# Altium schematic symbol library WE-FB.SchLib: 67 symbols
Pins are listed as number, name and electrical type; pins without a type are passive.

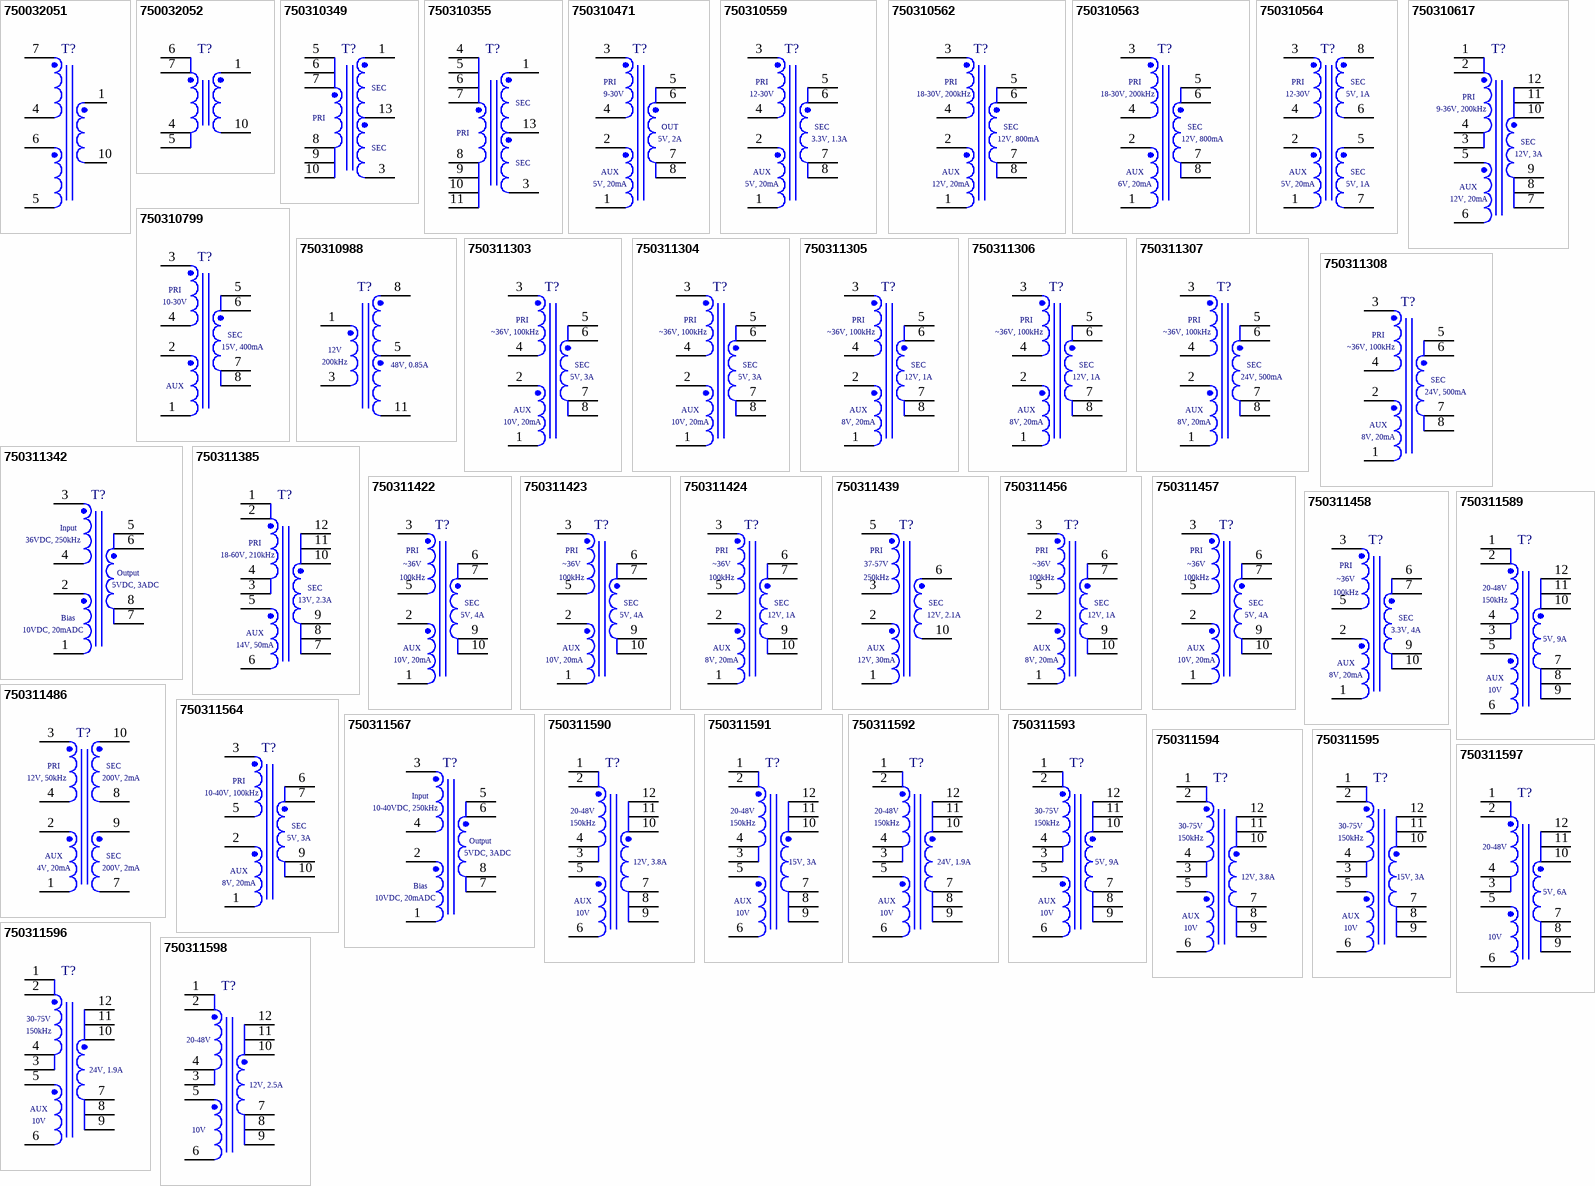
[diagram p0: symbols 750032051 to 750311598]

## 750032051
designator T?
pins: 1, 4, 5, 6, 7, 10

## 750032052
designator T?
pins: 1, 4, 5, 6, 7, 10

## 750310349
designator T?
pins: 1, 3, 5, 6, 7, 8, 9, 10, 13
text: SEC; PRI

## 750310355
designator T?
pins: 1, 3, 4, 5, 6, 7, 8, 9, 10, 11, 13
text: SEC; PRI

## 750310471
designator T?
pins: 1, 2, 3, 4, 5, 6, 7, 8
text: 9-30V; PRI; OUT; 5V, 2A; AUX; 5V, 20mA

## 750310559
designator T?
pins: 1, 2, 3, 4, 5, 6, 7, 8
text: PRI; 12-30V; SEC; 3.3V, 1.3A; AUX; 5V, 20mA

## 750310562
designator T?
pins: 1, 2, 3, 4, 5, 6, 7, 8
text: 18-30V, 200kHz; PRI; SEC; 12V, 800mA; AUX; 12V, 20mA

## 750310563
designator T?
pins: 1, 2, 3, 4, 5, 6, 7, 8
text: 18-30V, 200kHz; PRI; SEC; 12V, 800mA; AUX; 6V, 20mA

## 750310564
designator T?
pins: 1, 2, 3, 4, 5, 6, 7, 8
text: PRI; 12-30V; SEC; 5V, 1A; AUX; 5V, 20mA

## 750310617
designator T?
pins: 1, 2, 3, 4, 5, 6, 7, 8, 9, 10, 11, 12
text: 9-36V, 200kHz; PRI; 12V, 3A; SEC; 12V, 20mA; AUX

## 750310799
designator T?
pins: 1, 2, 3, 4, 5, 6, 7, 8
text: PRI; 10-30V; SEC; 15V, 400mA; AUX

## 750310988
designator T?
pins: 1, 3, 5, 8, 11
text: 12V; 200kHz; 48V, 0.85A

## 750311303
designator T?
pins: 1, 2, 3, 4, 5, 6, 7, 8
text: ~36V, 100kHz; PRI; SEC; 5V, 3A; AUX; 10V, 20mA

## 750311304
designator T?
pins: 1, 2, 3, 4, 5, 6, 7, 8
text: ~36V, 100kHz; PRI; SEC; 5V, 3A; AUX; 10V, 20mA

## 750311305
designator T?
pins: 1, 2, 3, 4, 5, 6, 7, 8
text: ~36V, 100kHz; PRI; SEC; 12V, 1A; AUX; 8V, 20mA

## 750311306
designator T?
pins: 1, 2, 3, 4, 5, 6, 7, 8
text: ~36V, 100kHz; PRI; SEC; 12V, 1A; AUX; 8V, 20mA

## 750311307
designator T?
pins: 1, 2, 3, 4, 5, 6, 7, 8
text: ~36V, 100kHz; PRI; SEC; 24V, 500mA; AUX; 8V, 20mA

## 750311308
designator T?
pins: 1, 2, 3, 4, 5, 6, 7, 8
text: ~36V, 100kHz; PRI; SEC; 24V, 500mA; AUX; 8V, 20mA

## 750311342
designator T?
pins: 1, 2, 3, 4, 5, 6, 7, 8
text: 36VDC, 250kHz; Input; Output; 5VDC, 3ADC; 10VDC, 20mADC; Bias

## 750311385
designator T?
pins: 1, 2, 3, 4, 5, 6, 7, 8, 9, 10, 11, 12
text: 18-60V, 210kHz; PRI; 13V, 2.3A; SEC; 14V, 50mA; AUX

## 750311422
designator T?
pins: 1, 2, 3, 5, 6, 7, 9, 10
text: PRI; ~36V; 100kHz; SEC; 5V, 4A; AUX; 10V, 20mA

## 750311423
designator T?
pins: 1, 2, 3, 5, 6, 7, 9, 10
text: PRI; ~36V; 100kHz; SEC; 5V, 4A; 10V, 20mA; AUX

## 750311424
designator T?
pins: 1, 2, 3, 5, 6, 7, 9, 10
text: PRI; ~36V; 100kHz; SEC; 12V, 1A; AUX; 8V, 20mA

## 750311439
designator T?
pins: 1, 2, 3, 5, 6, 10
text: PRI; 37-57V; 250kHz; SEC; 12V, 2.1A; AUX; 12V, 30mA

## 750311456
designator T?
pins: 1, 2, 3, 5, 6, 7, 9, 10
text: PRI; ~36V; 100kHz; 12V, 1A; SEC; AUX; 8V, 20mA

## 750311457
designator T?
pins: 1, 2, 3, 5, 6, 7, 9, 10
text: PRI; ~36V; 100kHz; SEC; 5V, 4A; AUX; 10V, 20mA

## 750311458
designator T?
pins: 1, 2, 3, 5, 6, 7, 9, 10
text: PRI; ~36V; 100kHz; SEC; 3.3V, 4A; AUX; 8V, 20mA

## 750311486
designator T?
pins: 1, 2, 3, 4, 7, 8, 9, 10
text: 12V, 50kHz; PRI; SEC; 200V, 2mA; AUX; 4V, 20mA

## 750311564
designator T?
pins: 1, 2, 3, 5, 6, 7, 9, 10
text: 10-40V, 100kHz; PRI; SEC; 5V, 3A; AUX; 8V, 20mA

## 750311567
designator T?
pins: 1, 2, 3, 4, 5, 6, 7, 8
text: 10-40VDC, 250kHz; Input; Output; 5VDC, 3ADC; 10VDC, 20mADC; Bias

## 750311589
designator T?
pins: 1, 2, 3, 4, 5, 6, 7, 8, 9, 10, 11, 12
text: 20-48V; 150kHz; 5V, 9A; 10V; AUX

## 750311590
designator T?
pins: 1, 2, 3, 4, 5, 6, 7, 8, 9, 10, 11, 12
text: 20-48V; 150kHz; 12V, 3.8A; 10V; AUX

## 750311591
designator T?
pins: 1, 2, 3, 4, 5, 6, 7, 8, 9, 10, 11, 12
text: 20-48V; 150kHz; 15V, 3A; 10V; AUX

## 750311592
designator T?
pins: 1, 2, 3, 4, 5, 6, 7, 8, 9, 10, 11, 12
text: 20-48V; 150kHz; 24V, 1.9A; 10V; AUX

## 750311593
designator T?
pins: 1, 2, 3, 4, 5, 6, 7, 8, 9, 10, 11, 12
text: 30-75V; 150kHz; 5V, 9A; 10V; AUX

## 750311594
designator T?
pins: 1, 2, 3, 4, 5, 6, 7, 8, 9, 10, 11, 12
text: 30-75V; 150kHz; 12V, 3.8A; 10V; AUX

## 750311595
designator T?
pins: 1, 2, 3, 4, 5, 6, 7, 8, 9, 10, 11, 12
text: 30-75V; 150kHz; 15V, 3A; 10V; AUX

## 750311596
designator T?
pins: 1, 2, 3, 4, 5, 6, 7, 8, 9, 10, 11, 12
text: 30-75V; 150kHz; 24V, 1.9A; 10V; AUX

## 750311597
designator T?
pins: 1, 2, 3, 4, 5, 6, 7, 8, 9, 10, 11, 12
text: 20-48V; 5V, 6A; 10V

## 750311598
designator T?
pins: 1, 2, 3, 4, 5, 6, 7, 8, 9, 10, 11, 12
text: 20-48V; 12V, 2.5A; 10V

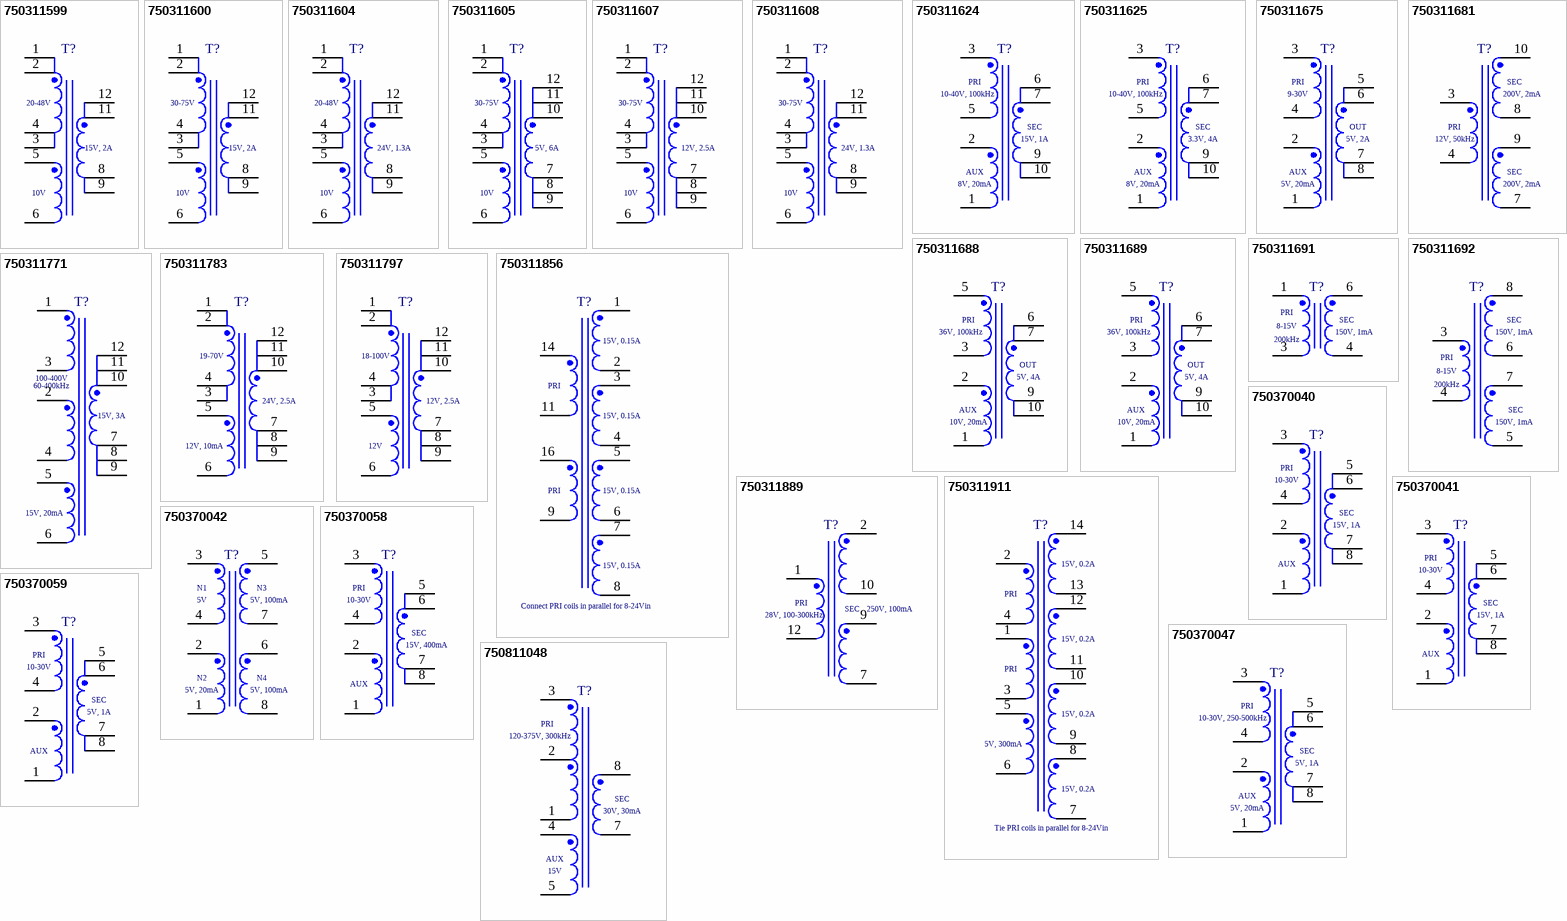
[diagram p1: symbols 750311599 to 750811048]

## 750311599
designator T?
pins: 1, 2, 3, 4, 5, 6, 8, 9, 11, 12
text: 20-48V; 15V, 2A; 10V

## 750311600
designator T?
pins: 1, 2, 3, 4, 5, 6, 8, 9, 11, 12
text: 30-75V; 15V, 2A; 10V

## 750311604
designator T?
pins: 1, 2, 3, 4, 5, 6, 8, 9, 11, 12
text: 20-48V; 24V, 1.3A; 10V

## 750311605
designator T?
pins: 1, 2, 3, 4, 5, 6, 7, 8, 9, 10, 11, 12
text: 30-75V; 5V, 6A; 10V

## 750311607
designator T?
pins: 1, 2, 3, 4, 5, 6, 7, 8, 9, 10, 11, 12
text: 30-75V; 12V, 2.5A; 10V

## 750311608
designator T?
pins: 1, 2, 3, 4, 5, 6, 8, 9, 11, 12
text: 30-75V; 24V, 1.3A; 10V

## 750311624
designator T?
pins: 1, 2, 3, 5, 6, 7, 9, 10
text: 10-40V, 100kHz; PRI; SEC; 15V, 1A; AUX; 8V, 20mA

## 750311625
designator T?
pins: 1, 2, 3, 5, 6, 7, 9, 10
text: 10-40V, 100kHz; PRI; SEC; 3.3V, 4A; AUX; 8V, 20mA

## 750311675
designator T?
pins: 1, 2, 3, 4, 5, 6, 7, 8
text: PRI; 9-30V; OUT; 5V, 2A; AUX; 5V, 20mA

## 750311681
designator T?
pins: 3, 4, 7, 8, 9, 10
text: SEC; 200V, 2mA; PRI; 12V, 50kHz

## 750311688
designator T?
pins: 1, 2, 3, 5, 6, 7, 9, 10
text: 36V, 100kHz; PRI; OUT; 5V, 4A; AUX; 10V, 20mA

## 750311689
designator T?
pins: 1, 2, 3, 5, 6, 7, 9, 10
text: 36V, 100kHz; PRI; OUT; 5V, 4A; AUX; 10V, 20mA

## 750311691
designator T?
pins: 1, 3, 4, 6
text: PRI; 8-15V; SEC; 150V, 1mA; 200kHz

## 750311692
designator T?
pins: 3, 4, 5, 6, 7, 8
text: 150V, 1mA; SEC; PRI; 8-15V; 200kHz

## 750311771
designator T?
pins: 1, 2, 3, 4, 5, 6, 7, 8, 9, 10, 11, 12
text: 100-400V; 60-400kHz; 15V, 3A; 15V, 20mA

## 750311783
designator T?
pins: 1, 2, 3, 4, 5, 6, 7, 8, 9, 10, 11, 12
text: 19-70V; 24V, 2.5A; 12V, 10mA

## 750311797
designator T?
pins: 1, 2, 3, 4, 5, 6, 7, 8, 9, 10, 11, 12
text: 18-100V; 12V, 2.5A; 12V

## 750311856
designator T?
pins: 1, 2, 3, 4, 5, 6, 7, 8, 9, 11, 14, 16
text: 15V, 0.15A; PRI; Connect PRI coils in parallel for 8-24Vin

## 750311889
designator T?
pins: 1, 2, 7, 9, 10, 12
text: 28V, 100-300kHz; PRI; SEC; 250V, 100mA

## 750311911
designator T?
pins: 1, 2, 3, 4, 5, 6, 7, 8, 9, 10, 11, 12, 13, 14
text: 15V, 0.2A; PRI; 5V, 300mA; Tie PRI coils in parallel for 8-24Vin

## 750370040
designator T?
pins: 1, 2, 3, 4, 5, 6, 7, 8
text: PRI; 10-30V; SEC; 15V, 1A; AUX

## 750370041
designator T?
pins: 1, 2, 3, 4, 5, 6, 7, 8
text: PRI; 10-30V; SEC; 15V, 1A; AUX

## 750370042
designator T?
pins: 1, 2, 3, 4, 5, 6, 7, 8
text: N1; 5V; N3; 5V, 100mA; N2; 5V, 20mA; N4

## 750370047
designator T?
pins: 1, 2, 3, 4, 5, 6, 7, 8
text: 10-30V, 250-500kHz; PRI; SEC; 5V, 1A; AUX; 5V, 20mA

## 750370058
designator T?
pins: 1, 2, 3, 4, 5, 6, 7, 8
text: PRI; 10-30V; SEC; 15V, 400mA; AUX

## 750370059
designator T?
pins: 1, 2, 3, 4, 5, 6, 7, 8
text: PRI; 10-30V; SEC; 5V, 1A; AUX

## 750811048
designator T?
pins: 1, 2, 3, 4, 5, 7, 8
text: 120-375V, 300kHz; PRI; SEC; 30V, 30mA; AUX; 15V